# Altium footprint library M2.5.PcbLib: 1 footprints
Each footprint in its own frame and in the unit in brackets; x right, y up, seen from the top. Pads: shape width x height; smd on the part's side, far side on the other; paste and mask are expansions set on the pad; w line width, h text height; cw(c..) or ccw(c..) is an arc to the next point about the centre after c.
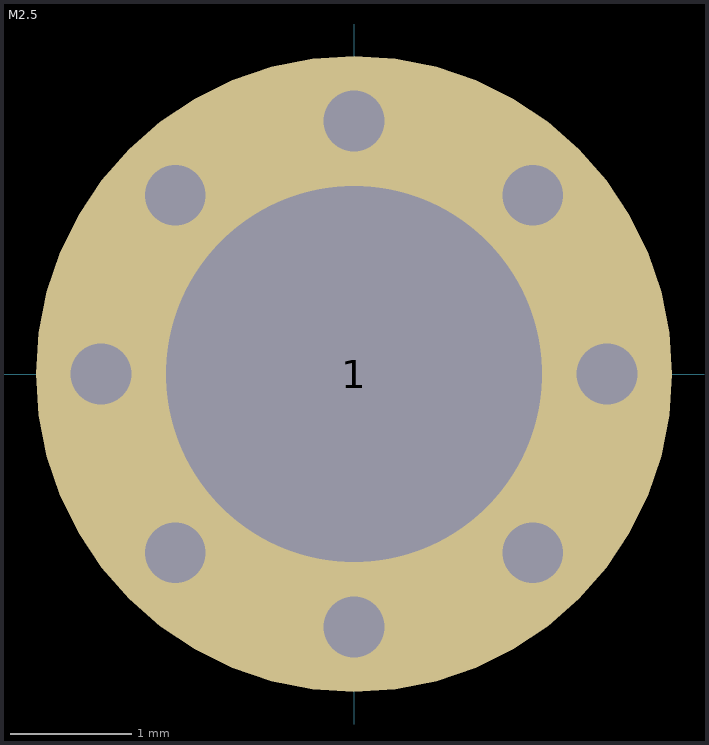
[diagram p0: the footprint, top view; thin cyan lines are the x and y axes]

## M2.5 [mm]
height 1.6
pads (9):
  round 0 hole 0.5: 1(-2.087,0) 1(-1.476,-1.476) 1(-1.476,1.476) 1(0,-2.087) 1(0,2.087) 1(1.476,-1.476) 1(1.476,1.476) 1(2.087,0)
  round 5.25 hole 3.1: 1(0,0)